# Altium schematic symbol library PES12-40S-N0024.SchLib: 1 symbol
Pins are listed as number, name and electrical type; pins without a type are passive.

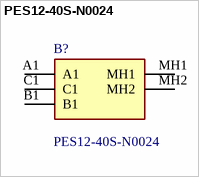
[diagram p0: symbol PES12-40S-N0024]

## PES12-40S-N0024
designator B?
ENCODER ROTARY; Manufacturer_Name: Bourns; Geometry.Height: 8.5mm; Mouser Part Number: 652-PES12-40S-N0024; Mouser Price/Stock: https://www.mouser.co.uk/ProductDetail/Bourns/PES12-40S-N0024?qs=9fn1gpisni7PBzk9dl6VPg%3D%3D; Manufacturer_Part_Number: PES12-40S-N0024; Datasheet Link: https://www.bourns.com/docs/Product-Datasheets/PES12.pdf
footprint PES1240SN0024
pins: A1, B1, C1, MH1, MH2